# Altium footprint library Ceramic QFP (Square).PcbLib: 31 footprints (part 3 of 3)
Each footprint in its own frame and in the unit in brackets; x right, y up, seen from the top. Pads: shape width x height; smd on the part's side, far side on the other; paste and mask are expansions set on the pad; w line width, h text height; cw(c..) or ccw(c..) is an arc to the next point about the centre after c.
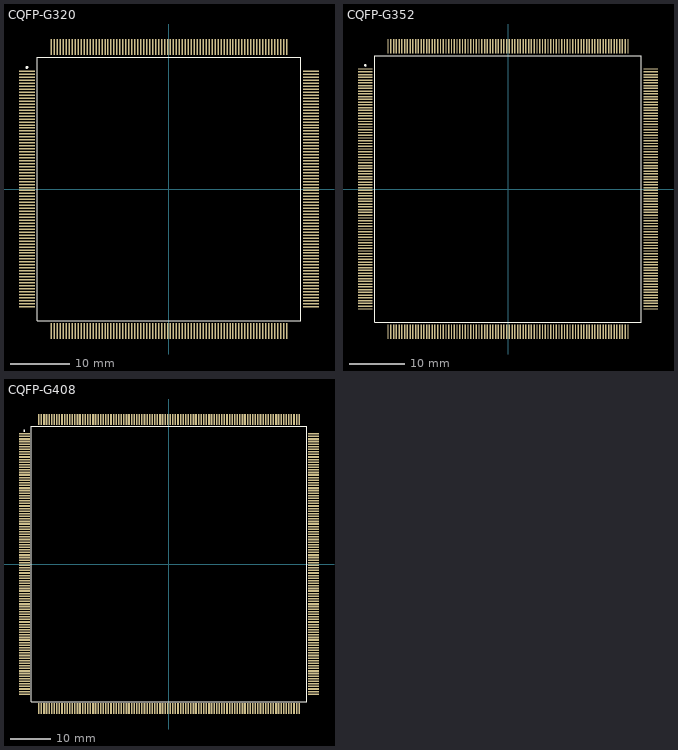
[diagram p2: the footprints below, top view; thin cyan lines are the x and y axes]

## CQFP-G320 [mm] "QFP; 320 Leads; Body 44 x 44 mm; Pitch 0.5mm"
height 2.7
pads (320):
  rect 2.65x0.25 smd: 1(-23.875,19.75) 2(-23.875,19.25) 3(-23.875,18.75) 4(-23.875,18.25) 5(-23.875,17.75) 6(-23.875,17.25) 7(-23.875,16.75) 8(-23.875,16.25) 9(-23.875,15.75) 10(-23.875,15.25) 11(-23.875,14.75) 12(-23.875,14.25) 13(-23.875,13.75) 14(-23.875,13.25) 15(-23.875,12.75) 16(-23.875,12.25) 17(-23.875,11.75) 18(-23.875,11.25) 19(-23.875,10.75) 20(-23.875,10.25) 21(-23.875,9.75) 22(-23.875,9.25) 23(-23.875,8.75) 24(-23.875,8.25) 25(-23.875,7.75) 26(-23.875,7.25) 27(-23.875,6.75) 28(-23.875,6.25) 29(-23.875,5.75) 30(-23.875,5.25) 31(-23.875,4.75) 32(-23.875,4.25) 33(-23.875,3.75) 34(-23.875,3.25) 35(-23.875,2.75) 36(-23.875,2.25) 37(-23.875,1.75) 38(-23.875,1.25) 39(-23.875,0.75) 40(-23.875,0.25) 41(-23.875,-0.25) 42(-23.875,-0.75) 43(-23.875,-1.25) 44(-23.875,-1.75) 45(-23.875,-2.25) 46(-23.875,-2.75) 47(-23.875,-3.25) 48(-23.875,-3.75) 49(-23.875,-4.25) 50(-23.875,-4.75) 51(-23.875,-5.25) 52(-23.875,-5.75) 53(-23.875,-6.25) 54(-23.875,-6.75) 55(-23.875,-7.25) 56(-23.875,-7.75) 57(-23.875,-8.25) 58(-23.875,-8.75) 59(-23.875,-9.25) 60(-23.875,-9.75) 61(-23.875,-10.25) 62(-23.875,-10.75) 63(-23.875,-11.25) 64(-23.875,-11.75) 65(-23.875,-12.25) 66(-23.875,-12.75) 67(-23.875,-13.25) 68(-23.875,-13.75) 69(-23.875,-14.25) 70(-23.875,-14.75) 71(-23.875,-15.25) 72(-23.875,-15.75) 73(-23.875,-16.25) 74(-23.875,-16.75) 75(-23.875,-17.25) 76(-23.875,-17.75) 77(-23.875,-18.25) 78(-23.875,-18.75) 79(-23.875,-19.25) 80(-23.875,-19.75) 161(23.875,-19.75) 162(23.875,-19.25) 163(23.875,-18.75) 164(23.875,-18.25) 165(23.875,-17.75) 166(23.875,-17.25) 167(23.875,-16.75) 168(23.875,-16.25) 169(23.875,-15.75) 170(23.875,-15.25) 171(23.875,-14.75) 172(23.875,-14.25) 173(23.875,-13.75) 174(23.875,-13.25) 175(23.875,-12.75) 176(23.875,-12.25) 177(23.875,-11.75) 178(23.875,-11.25) 179(23.875,-10.75) 180(23.875,-10.25) 181(23.875,-9.75) 182(23.875,-9.25) 183(23.875,-8.75) 184(23.875,-8.25) 185(23.875,-7.75) 186(23.875,-7.25) 187(23.875,-6.75) 188(23.875,-6.25) 189(23.875,-5.75) 190(23.875,-5.25) 191(23.875,-4.75) 192(23.875,-4.25) 193(23.875,-3.75) 194(23.875,-3.25) 195(23.875,-2.75) 196(23.875,-2.25) 197(23.875,-1.75) 198(23.875,-1.25) 199(23.875,-0.75) 200(23.875,-0.25) 201(23.875,0.25) 202(23.875,0.75) 203(23.875,1.25) 204(23.875,1.75) 205(23.875,2.25) 206(23.875,2.75) 207(23.875,3.25) 208(23.875,3.75) 209(23.875,4.25) 210(23.875,4.75) 211(23.875,5.25) 212(23.875,5.75) 213(23.875,6.25) 214(23.875,6.75) 215(23.875,7.25) 216(23.875,7.75) 217(23.875,8.25) 218(23.875,8.75) 219(23.875,9.25) 220(23.875,9.75) 221(23.875,10.25) 222(23.875,10.75) 223(23.875,11.25) 224(23.875,11.75) 225(23.875,12.25) 226(23.875,12.75) 227(23.875,13.25) 228(23.875,13.75) 229(23.875,14.25) 230(23.875,14.75) 231(23.875,15.25) 232(23.875,15.75) 233(23.875,16.25) 234(23.875,16.75) 235(23.875,17.25) 236(23.875,17.75) 237(23.875,18.25) 238(23.875,18.75) 239(23.875,19.25) 240(23.875,19.75)
  rect 0.25x2.65 smd: 81(-19.75,-23.875) 82(-19.25,-23.875) 83(-18.75,-23.875) 84(-18.25,-23.875) 85(-17.75,-23.875) 86(-17.25,-23.875) 87(-16.75,-23.875) 88(-16.25,-23.875) 89(-15.75,-23.875) 90(-15.25,-23.875) 91(-14.75,-23.875) 92(-14.25,-23.875) 93(-13.75,-23.875) 94(-13.25,-23.875) 95(-12.75,-23.875) 96(-12.25,-23.875) 97(-11.75,-23.875) 98(-11.25,-23.875) 99(-10.75,-23.875) 100(-10.25,-23.875) 101(-9.75,-23.875) 102(-9.25,-23.875) 103(-8.75,-23.875) 104(-8.25,-23.875) 105(-7.75,-23.875) 106(-7.25,-23.875) 107(-6.75,-23.875) 108(-6.25,-23.875) 109(-5.75,-23.875) 110(-5.25,-23.875) 111(-4.75,-23.875) 112(-4.25,-23.875) 113(-3.75,-23.875) 114(-3.25,-23.875) 115(-2.75,-23.875) 116(-2.25,-23.875) 117(-1.75,-23.875) 118(-1.25,-23.875) 119(-0.75,-23.875) 120(-0.25,-23.875) 121(0.25,-23.875) 122(0.75,-23.875) 123(1.25,-23.875) 124(1.75,-23.875) 125(2.25,-23.875) 126(2.75,-23.875) 127(3.25,-23.875) 128(3.75,-23.875) 129(4.25,-23.875) 130(4.75,-23.875) 131(5.25,-23.875) 132(5.75,-23.875) 133(6.25,-23.875) 134(6.75,-23.875) 135(7.25,-23.875) 136(7.75,-23.875) 137(8.25,-23.875) 138(8.75,-23.875) 139(9.25,-23.875) 140(9.75,-23.875) 141(10.25,-23.875) 142(10.75,-23.875) 143(11.25,-23.875) 144(11.75,-23.875) 145(12.25,-23.875) 146(12.75,-23.875) 147(13.25,-23.875) 148(13.75,-23.875) 149(14.25,-23.875) 150(14.75,-23.875) 151(15.25,-23.875) 152(15.75,-23.875) 153(16.25,-23.875) 154(16.75,-23.875) 155(17.25,-23.875) 156(17.75,-23.875) 157(18.25,-23.875) 158(18.75,-23.875) 159(19.25,-23.875) 160(19.75,-23.875) 241(19.75,23.875) 242(19.25,23.875) 243(18.75,23.875) 244(18.25,23.875) 245(17.75,23.875) 246(17.25,23.875) 247(16.75,23.875) 248(16.25,23.875) 249(15.75,23.875) 250(15.25,23.875) 251(14.75,23.875) 252(14.25,23.875) 253(13.75,23.875) 254(13.25,23.875) 255(12.75,23.875) 256(12.25,23.875) 257(11.75,23.875) 258(11.25,23.875) 259(10.75,23.875) 260(10.25,23.875) 261(9.75,23.875) 262(9.25,23.875) 263(8.75,23.875) 264(8.25,23.875) 265(7.75,23.875) 266(7.25,23.875) 267(6.75,23.875) 268(6.25,23.875) 269(5.75,23.875) 270(5.25,23.875) 271(4.75,23.875) 272(4.25,23.875) 273(3.75,23.875) 274(3.25,23.875) 275(2.75,23.875) 276(2.25,23.875) 277(1.75,23.875) 278(1.25,23.875) 279(0.75,23.875) 280(0.25,23.875) 281(-0.25,23.875) 282(-0.75,23.875) 283(-1.25,23.875) 284(-1.75,23.875) 285(-2.25,23.875) 286(-2.75,23.875) 287(-3.25,23.875) 288(-3.75,23.875) 289(-4.25,23.875) 290(-4.75,23.875) 291(-5.25,23.875) 292(-5.75,23.875) 293(-6.25,23.875) 294(-6.75,23.875) 295(-7.25,23.875) 296(-7.75,23.875) 297(-8.25,23.875) 298(-8.75,23.875) 299(-9.25,23.875) 300(-9.75,23.875) 301(-10.25,23.875) 302(-10.75,23.875) 303(-11.25,23.875) 304(-11.75,23.875) 305(-12.25,23.875) 306(-12.75,23.875) 307(-13.25,23.875) 308(-13.75,23.875) 309(-14.25,23.875) 310(-14.75,23.875) 311(-15.25,23.875) 312(-15.75,23.875) 313(-16.25,23.875) 314(-16.75,23.875) 315(-17.25,23.875) 316(-17.75,23.875) 317(-18.25,23.875) 318(-18.75,23.875) 319(-19.25,23.875) 320(-19.75,23.875)
Top Overlay:
  circle w0.25: c-23.875,20.425 r0.125
  lines w0.2: -22.15,-22.15 22.15,-22.15 22.15,22.15 -22.15,22.15 -22.15,-22.15

## CQFP-G352 [mm] "352-Pin Ceramic Quad Flat Pack (CQFP), Cavity Up without Heat Sink"
height 2.9
pads (352):
  rect 2.65x0.25 smd: 1(-25.875,21.75) 2(-25.875,21.25) 3(-25.875,20.75) 4(-25.875,20.25) 5(-25.875,19.75) 6(-25.875,19.25) 7(-25.875,18.75) 8(-25.875,18.25) 9(-25.875,17.75) 10(-25.875,17.25) 11(-25.875,16.75) 12(-25.875,16.25) 13(-25.875,15.75) 14(-25.875,15.25) 15(-25.875,14.75) 16(-25.875,14.25) 17(-25.875,13.75) 18(-25.875,13.25) 19(-25.875,12.75) 20(-25.875,12.25) 21(-25.875,11.75) 22(-25.875,11.25) 23(-25.875,10.75) 24(-25.875,10.25) 25(-25.875,9.75) 26(-25.875,9.25) 27(-25.875,8.75) 28(-25.875,8.25) 29(-25.875,7.75) 30(-25.875,7.25) 31(-25.875,6.75) 32(-25.875,6.25) 33(-25.875,5.75) 34(-25.875,5.25) 35(-25.875,4.75) 36(-25.875,4.25) 37(-25.875,3.75) 38(-25.875,3.25) 39(-25.875,2.75) 40(-25.875,2.25) 41(-25.875,1.75) 42(-25.875,1.25) 43(-25.875,0.75) 44(-25.875,0.25) 45(-25.875,-0.25) 46(-25.875,-0.75) 47(-25.875,-1.25) 48(-25.875,-1.75) 49(-25.875,-2.25) 50(-25.875,-2.75) 51(-25.875,-3.25) 52(-25.875,-3.75) 53(-25.875,-4.25) 54(-25.875,-4.75) 55(-25.875,-5.25) 56(-25.875,-5.75) 57(-25.875,-6.25) 58(-25.875,-6.75) 59(-25.875,-7.25) 60(-25.875,-7.75) 61(-25.875,-8.25) 62(-25.875,-8.75) 63(-25.875,-9.25) 64(-25.875,-9.75) 65(-25.875,-10.25) 66(-25.875,-10.75) 67(-25.875,-11.25) 68(-25.875,-11.75) 69(-25.875,-12.25) 70(-25.875,-12.75) 71(-25.875,-13.25) 72(-25.875,-13.75) 73(-25.875,-14.25) 74(-25.875,-14.75) 75(-25.875,-15.25) 76(-25.875,-15.75) 77(-25.875,-16.25) 78(-25.875,-16.75) 79(-25.875,-17.25) 80(-25.875,-17.75) 81(-25.875,-18.25) 82(-25.875,-18.75) 83(-25.875,-19.25) 84(-25.875,-19.75) 85(-25.875,-20.25) 86(-25.875,-20.75) 87(-25.875,-21.25) 88(-25.875,-21.75) 177(25.875,-21.75) 178(25.875,-21.25) 179(25.875,-20.75) 180(25.875,-20.25) 181(25.875,-19.75) 182(25.875,-19.25) 183(25.875,-18.75) 184(25.875,-18.25) 185(25.875,-17.75) 186(25.875,-17.25) 187(25.875,-16.75) 188(25.875,-16.25) 189(25.875,-15.75) 190(25.875,-15.25) 191(25.875,-14.75) 192(25.875,-14.25) 193(25.875,-13.75) 194(25.875,-13.25) 195(25.875,-12.75) 196(25.875,-12.25) 197(25.875,-11.75) 198(25.875,-11.25) 199(25.875,-10.75) 200(25.875,-10.25) 201(25.875,-9.75) 202(25.875,-9.25) 203(25.875,-8.75) 204(25.875,-8.25) 205(25.875,-7.75) 206(25.875,-7.25) 207(25.875,-6.75) 208(25.875,-6.25) 209(25.875,-5.75) 210(25.875,-5.25) 211(25.875,-4.75) 212(25.875,-4.25) 213(25.875,-3.75) 214(25.875,-3.25) 215(25.875,-2.75) 216(25.875,-2.25) 217(25.875,-1.75) 218(25.875,-1.25) 219(25.875,-0.75) 220(25.875,-0.25) 221(25.875,0.25) 222(25.875,0.75) 223(25.875,1.25) 224(25.875,1.75) 225(25.875,2.25) 226(25.875,2.75) 227(25.875,3.25) 228(25.875,3.75) 229(25.875,4.25) 230(25.875,4.75) 231(25.875,5.25) 232(25.875,5.75) 233(25.875,6.25) 234(25.875,6.75) 235(25.875,7.25) 236(25.875,7.75) 237(25.875,8.25) 238(25.875,8.75) 239(25.875,9.25) 240(25.875,9.75) 241(25.875,10.25) 242(25.875,10.75) 243(25.875,11.25) 244(25.875,11.75) 245(25.875,12.25) 246(25.875,12.75) 247(25.875,13.25) 248(25.875,13.75) 249(25.875,14.25) 250(25.875,14.75) 251(25.875,15.25) 252(25.875,15.75) 253(25.875,16.25) 254(25.875,16.75) 255(25.875,17.25) 256(25.875,17.75) 257(25.875,18.25) 258(25.875,18.75) 259(25.875,19.25) 260(25.875,19.75) 261(25.875,20.25) 262(25.875,20.75) 263(25.875,21.25) 264(25.875,21.75)
  rect 0.25x2.65 smd: 89(-21.75,-25.875) 90(-21.25,-25.875) 91(-20.75,-25.875) 92(-20.25,-25.875) 93(-19.75,-25.875) 94(-19.25,-25.875) 95(-18.75,-25.875) 96(-18.25,-25.875) 97(-17.75,-25.875) 98(-17.25,-25.875) 99(-16.75,-25.875) 100(-16.25,-25.875) 101(-15.75,-25.875) 102(-15.25,-25.875) 103(-14.75,-25.875) 104(-14.25,-25.875) 105(-13.75,-25.875) 106(-13.25,-25.875) 107(-12.75,-25.875) 108(-12.25,-25.875) 109(-11.75,-25.875) 110(-11.25,-25.875) 111(-10.75,-25.875) 112(-10.25,-25.875) 113(-9.75,-25.875) 114(-9.25,-25.875) 115(-8.75,-25.875) 116(-8.25,-25.875) 117(-7.75,-25.875) 118(-7.25,-25.875) 119(-6.75,-25.875) 120(-6.25,-25.875) 121(-5.75,-25.875) 122(-5.25,-25.875) 123(-4.75,-25.875) 124(-4.25,-25.875) 125(-3.75,-25.875) 126(-3.25,-25.875) 127(-2.75,-25.875) 128(-2.25,-25.875) 129(-1.75,-25.875) 130(-1.25,-25.875) 131(-0.75,-25.875) 132(-0.25,-25.875) 133(0.25,-25.875) 134(0.75,-25.875) 135(1.25,-25.875) 136(1.75,-25.875) 137(2.25,-25.875) 138(2.75,-25.875) 139(3.25,-25.875) 140(3.75,-25.875) 141(4.25,-25.875) 142(4.75,-25.875) 143(5.25,-25.875) 144(5.75,-25.875) 145(6.25,-25.875) 146(6.75,-25.875) 147(7.25,-25.875) 148(7.75,-25.875) 149(8.25,-25.875) 150(8.75,-25.875) 151(9.25,-25.875) 152(9.75,-25.875) 153(10.25,-25.875) 154(10.75,-25.875) 155(11.25,-25.875) 156(11.75,-25.875) 157(12.25,-25.875) 158(12.75,-25.875) 159(13.25,-25.875) 160(13.75,-25.875) 161(14.25,-25.875) 162(14.75,-25.875) 163(15.25,-25.875) 164(15.75,-25.875) 165(16.25,-25.875) 166(16.75,-25.875) 167(17.25,-25.875) 168(17.75,-25.875) 169(18.25,-25.875) 170(18.75,-25.875) 171(19.25,-25.875) 172(19.75,-25.875) 173(20.25,-25.875) 174(20.75,-25.875) 175(21.25,-25.875) 176(21.75,-25.875) 265(21.75,25.875) 266(21.25,25.875) 267(20.75,25.875) 268(20.25,25.875) 269(19.75,25.875) 270(19.25,25.875) 271(18.75,25.875) 272(18.25,25.875) 273(17.75,25.875) 274(17.25,25.875) 275(16.75,25.875) 276(16.25,25.875) 277(15.75,25.875) 278(15.25,25.875) 279(14.75,25.875) 280(14.25,25.875) 281(13.75,25.875) 282(13.25,25.875) 283(12.75,25.875) 284(12.25,25.875) 285(11.75,25.875) 286(11.25,25.875) 287(10.75,25.875) 288(10.25,25.875) 289(9.75,25.875) 290(9.25,25.875) 291(8.75,25.875) 292(8.25,25.875) 293(7.75,25.875) 294(7.25,25.875) 295(6.75,25.875) 296(6.25,25.875) 297(5.75,25.875) 298(5.25,25.875) 299(4.75,25.875) 300(4.25,25.875) 301(3.75,25.875) 302(3.25,25.875) 303(2.75,25.875) 304(2.25,25.875) 305(1.75,25.875) 306(1.25,25.875) 307(0.75,25.875) 308(0.25,25.875) 309(-0.25,25.875) 310(-0.75,25.875) 311(-1.25,25.875) 312(-1.75,25.875) 313(-2.25,25.875) 314(-2.75,25.875) 315(-3.25,25.875) 316(-3.75,25.875) 317(-4.25,25.875) 318(-4.75,25.875) 319(-5.25,25.875) 320(-5.75,25.875) 321(-6.25,25.875) 322(-6.75,25.875) 323(-7.25,25.875) 324(-7.75,25.875) 325(-8.25,25.875) 326(-8.75,25.875) 327(-9.25,25.875) 328(-9.75,25.875) 329(-10.25,25.875) 330(-10.75,25.875) 331(-11.25,25.875) 332(-11.75,25.875) 333(-12.25,25.875) 334(-12.75,25.875) 335(-13.25,25.875) 336(-13.75,25.875) 337(-14.25,25.875) 338(-14.75,25.875) 339(-15.25,25.875) 340(-15.75,25.875) 341(-16.25,25.875) 342(-16.75,25.875) 343(-17.25,25.875) 344(-17.75,25.875) 345(-18.25,25.875) 346(-18.75,25.875) 347(-19.25,25.875) 348(-19.75,25.875) 349(-20.25,25.875) 350(-20.75,25.875) 351(-21.25,25.875) 352(-21.75,25.875)
Top Overlay:
  circle w0.25: c-25.875,22.425 r0.125
  lines w0.2: -24.15,-24.15 -24.15,24.15 24.15,24.15 24.15,-24.15 -24.15,-24.15

## CQFP-G408 [mm] "QFP; 408 Leads; Body 67 x 67 mm; Pitch 0.635mm"
height 2.5
pads (408):
  rect 2.65x0.4 smd: 1(-35.625,32.07) 2(-35.625,31.435) 3(-35.625,30.8) 4(-35.625,30.165) 5(-35.625,29.53) 6(-35.625,28.895) 7(-35.625,28.26) 8(-35.625,27.625) 9(-35.625,26.99) 10(-35.625,26.355) 11(-35.625,25.72) 12(-35.625,25.085) 13(-35.625,24.45) 14(-35.625,23.815) 15(-35.625,23.18) 16(-35.625,22.545) 17(-35.625,21.91) 18(-35.625,21.275) 19(-35.625,20.64) 20(-35.625,20.005) 21(-35.625,19.37) 22(-35.625,18.735) 23(-35.625,18.1) 24(-35.625,17.465) 25(-35.625,16.83) 26(-35.625,16.195) 27(-35.625,15.56) 28(-35.625,14.925) 29(-35.625,14.29) 30(-35.625,13.655) 31(-35.625,13.02) 32(-35.625,12.385) 33(-35.625,11.75) 34(-35.625,11.115) 35(-35.625,10.48) 36(-35.625,9.845) 37(-35.625,9.21) 38(-35.625,8.575) 39(-35.625,7.94) 40(-35.625,7.305) 41(-35.625,6.67) 42(-35.625,6.035) 43(-35.625,5.4) 44(-35.625,4.765) 45(-35.625,4.13) 46(-35.625,3.495) 47(-35.625,2.86) 48(-35.625,2.225) 49(-35.625,1.59) 50(-35.625,0.955) 51(-35.625,0.32) 52(-35.625,-0.315) 53(-35.625,-0.95) 54(-35.625,-1.585) 55(-35.625,-2.22) 56(-35.625,-2.855) 57(-35.625,-3.49) 58(-35.625,-4.125) 59(-35.625,-4.76) 60(-35.625,-5.395) 61(-35.625,-6.03) 62(-35.625,-6.665) 63(-35.625,-7.3) 64(-35.625,-7.935) 65(-35.625,-8.57) 66(-35.625,-9.205) 67(-35.625,-9.84) 68(-35.625,-10.475) 69(-35.625,-11.11) 70(-35.625,-11.745) 71(-35.625,-12.38) 72(-35.625,-13.015) 73(-35.625,-13.65) 74(-35.625,-14.285) 75(-35.625,-14.92) 76(-35.625,-15.555) 77(-35.625,-16.19) 78(-35.625,-16.825) 79(-35.625,-17.46) 80(-35.625,-18.095) 81(-35.625,-18.73) 82(-35.625,-19.365) 83(-35.625,-20) 84(-35.625,-20.635) 85(-35.625,-21.27) 86(-35.625,-21.905) 87(-35.625,-22.54) 88(-35.625,-23.175) 89(-35.625,-23.81) 90(-35.625,-24.445) 91(-35.625,-25.08) 92(-35.625,-25.715) 93(-35.625,-26.35) 94(-35.625,-26.985) 95(-35.625,-27.62) 96(-35.625,-28.255) 97(-35.625,-28.89) 98(-35.625,-29.525) 99(-35.625,-30.16) 100(-35.625,-30.795) 101(-35.625,-31.43) 102(-35.625,-32.065) 205(35.625,-32.065) 206(35.625,-31.43) 207(35.625,-30.795) 208(35.625,-30.16) 209(35.625,-29.525) 210(35.625,-28.89) 211(35.625,-28.255) 212(35.625,-27.62) 213(35.625,-26.985) 214(35.625,-26.35) 215(35.625,-25.715) 216(35.625,-25.08) 217(35.625,-24.445) 218(35.625,-23.81) 219(35.625,-23.175) 220(35.625,-22.54) 221(35.625,-21.905) 222(35.625,-21.27) 223(35.625,-20.635) 224(35.625,-20) 225(35.625,-19.365) 226(35.625,-18.73) 227(35.625,-18.095) 228(35.625,-17.46) 229(35.625,-16.825) 230(35.625,-16.19) 231(35.625,-15.555) 232(35.625,-14.92) 233(35.625,-14.285) 234(35.625,-13.65) 235(35.625,-13.015) 236(35.625,-12.38) 237(35.625,-11.745) 238(35.625,-11.11) 239(35.625,-10.475) 240(35.625,-9.84) 241(35.625,-9.205) 242(35.625,-8.57) 243(35.625,-7.935) 244(35.625,-7.3) 245(35.625,-6.665) 246(35.625,-6.03) 247(35.625,-5.395) 248(35.625,-4.76) 249(35.625,-4.125) 250(35.625,-3.49) 251(35.625,-2.855) 252(35.625,-2.22) 253(35.625,-1.585) 254(35.625,-0.95) 255(35.625,-0.315) 256(35.625,0.32) 257(35.625,0.955) 258(35.625,1.59) 259(35.625,2.225) 260(35.625,2.86) 261(35.625,3.495) 262(35.625,4.13) 263(35.625,4.765) 264(35.625,5.4) 265(35.625,6.035) 266(35.625,6.67) 267(35.625,7.305) 268(35.625,7.94) 269(35.625,8.575) 270(35.625,9.21) 271(35.625,9.845) 272(35.625,10.48) 273(35.625,11.115) 274(35.625,11.75) 275(35.625,12.385) 276(35.625,13.02) 277(35.625,13.655) 278(35.625,14.29) 279(35.625,14.925) 280(35.625,15.56) 281(35.625,16.195) 282(35.625,16.83) 283(35.625,17.465) 284(35.625,18.1) 285(35.625,18.735) 286(35.625,19.37) 287(35.625,20.005) 288(35.625,20.64) 289(35.625,21.275) 290(35.625,21.91) 291(35.625,22.545) 292(35.625,23.18) 293(35.625,23.815) 294(35.625,24.45) 295(35.625,25.085) 296(35.625,25.72) 297(35.625,26.355) 298(35.625,26.99) 299(35.625,27.625) 300(35.625,28.26) 301(35.625,28.895) 302(35.625,29.53) 303(35.625,30.165) 304(35.625,30.8) 305(35.625,31.435) 306(35.625,32.07)
  rect 0.4x2.65 smd: 103(-32.07,-35.625) 104(-31.435,-35.625) 105(-30.8,-35.625) 106(-30.165,-35.625) 107(-29.53,-35.625) 108(-28.895,-35.625) 109(-28.26,-35.625) 110(-27.625,-35.625) 111(-26.99,-35.625) 112(-26.355,-35.625) 113(-25.72,-35.625) 114(-25.085,-35.625) 115(-24.45,-35.625) 116(-23.815,-35.625) 117(-23.18,-35.625) 118(-22.545,-35.625) 119(-21.91,-35.625) 120(-21.275,-35.625) 121(-20.64,-35.625) 122(-20.005,-35.625) 123(-19.37,-35.625) 124(-18.735,-35.625) 125(-18.1,-35.625) 126(-17.465,-35.625) 127(-16.83,-35.625) 128(-16.195,-35.625) 129(-15.56,-35.625) 130(-14.925,-35.625) 131(-14.29,-35.625) 132(-13.655,-35.625) 133(-13.02,-35.625) 134(-12.385,-35.625) 135(-11.75,-35.625) 136(-11.115,-35.625) 137(-10.48,-35.625) 138(-9.845,-35.625) 139(-9.21,-35.625) 140(-8.575,-35.625) 141(-7.94,-35.625) 142(-7.305,-35.625) 143(-6.67,-35.625) 144(-6.035,-35.625) 145(-5.4,-35.625) 146(-4.765,-35.625) 147(-4.13,-35.625) 148(-3.495,-35.625) 149(-2.86,-35.625) 150(-2.225,-35.625) 151(-1.59,-35.625) 152(-0.955,-35.625) 153(-0.32,-35.625) 154(0.315,-35.625) 155(0.95,-35.625) 156(1.585,-35.625) 157(2.22,-35.625) 158(2.855,-35.625) 159(3.49,-35.625) 160(4.125,-35.625) 161(4.76,-35.625) 162(5.395,-35.625) 163(6.03,-35.625) 164(6.665,-35.625) 165(7.3,-35.625) 166(7.935,-35.625) 167(8.57,-35.625) 168(9.205,-35.625) 169(9.84,-35.625) 170(10.475,-35.625) 171(11.11,-35.625) 172(11.745,-35.625) 173(12.38,-35.625) 174(13.015,-35.625) 175(13.65,-35.625) 176(14.285,-35.625) 177(14.92,-35.625) 178(15.555,-35.625) 179(16.19,-35.625) 180(16.825,-35.625) 181(17.46,-35.625) 182(18.095,-35.625) 183(18.73,-35.625) 184(19.365,-35.625) 185(20,-35.625) 186(20.635,-35.625) 187(21.27,-35.625) 188(21.905,-35.625) 189(22.54,-35.625) 190(23.175,-35.625) 191(23.81,-35.625) 192(24.445,-35.625) 193(25.08,-35.625) 194(25.715,-35.625) 195(26.35,-35.625) 196(26.985,-35.625) 197(27.62,-35.625) 198(28.255,-35.625) 199(28.89,-35.625) 200(29.525,-35.625) 201(30.16,-35.625) 202(30.795,-35.625) 203(31.43,-35.625) 204(32.065,-35.625) 307(32.065,35.625) 308(31.43,35.625) 309(30.795,35.625) 310(30.16,35.625) 311(29.525,35.625) 312(28.89,35.625) 313(28.255,35.625) 314(27.62,35.625) 315(26.985,35.625) 316(26.35,35.625) 317(25.715,35.625) 318(25.08,35.625) 319(24.445,35.625) 320(23.81,35.625) 321(23.175,35.625) 322(22.54,35.625) 323(21.905,35.625) 324(21.27,35.625) 325(20.635,35.625) 326(20,35.625) 327(19.365,35.625) 328(18.73,35.625) 329(18.095,35.625) 330(17.46,35.625) 331(16.825,35.625) 332(16.19,35.625) 333(15.555,35.625) 334(14.92,35.625) 335(14.285,35.625) 336(13.65,35.625) 337(13.015,35.625) 338(12.38,35.625) 339(11.745,35.625) 340(11.11,35.625) 341(10.475,35.625) 342(9.84,35.625) 343(9.205,35.625) 344(8.57,35.625) 345(7.935,35.625) 346(7.3,35.625) 347(6.665,35.625) 348(6.03,35.625) 349(5.395,35.625) 350(4.76,35.625) 351(4.125,35.625) 352(3.49,35.625) 353(2.855,35.625) 354(2.22,35.625) 355(1.585,35.625) 356(0.95,35.625) 357(0.315,35.625) 358(-0.32,35.625) 359(-0.955,35.625) 360(-1.59,35.625) 361(-2.225,35.625) 362(-2.86,35.625) 363(-3.495,35.625) 364(-4.13,35.625) 365(-4.765,35.625) 366(-5.4,35.625) 367(-6.035,35.625) 368(-6.67,35.625) 369(-7.305,35.625) 370(-7.94,35.625) 371(-8.575,35.625) 372(-9.21,35.625) 373(-9.845,35.625) 374(-10.48,35.625) 375(-11.115,35.625) 376(-11.75,35.625) 377(-12.385,35.625) 378(-13.02,35.625) 379(-13.655,35.625) 380(-14.29,35.625) 381(-14.925,35.625) 382(-15.56,35.625) 383(-16.195,35.625) 384(-16.83,35.625) 385(-17.465,35.625) 386(-18.1,35.625) 387(-18.735,35.625) 388(-19.37,35.625) 389(-20.005,35.625) 390(-20.64,35.625) 391(-21.275,35.625) 392(-21.91,35.625) 393(-22.545,35.625) 394(-23.18,35.625) 395(-23.815,35.625) 396(-24.45,35.625) 397(-25.085,35.625) 398(-25.72,35.625) 399(-26.355,35.625) 400(-26.99,35.625) 401(-27.625,35.625) 402(-28.26,35.625) 403(-28.895,35.625) 404(-29.53,35.625) 405(-30.165,35.625) 406(-30.8,35.625) 407(-31.435,35.625) 408(-32.07,35.625)
Top Overlay:
  circle w0.25: c-35.625,32.82 r0.125
  lines w0.2: -33.9,-33.9 33.9,-33.9 33.9,33.9 -33.9,33.9 -33.9,-33.9